# Altium footprint library XC6220B331MR-G.PcbLib: 3 footprints
Each footprint in its own frame and in the unit in brackets; x right, y up, seen from the top. Pads: shape width x height; smd on the part's side, far side on the other; paste and mask are expansions set on the pad; w line width, h text height; cw(c..) or ccw(c..) is an arc to the next point about the centre after c.
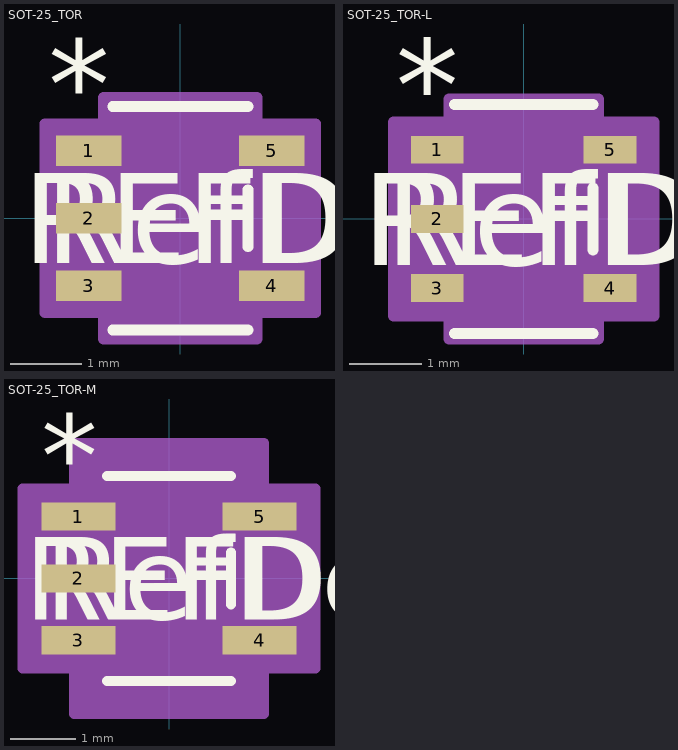
[diagram p0: the footprints below, top view; thin cyan lines are the x and y axes]

## SOT-25_TOR [mil]
pads (5):
  rect 36.5x17 smd paste+0 mask+0: 1(-50.75,37.4) 2(-50.75,0) 3(-50.75,-37.4) 4(50.75,-37.4) 5(50.75,37.4)
Top Overlay:
  lines w6: -37.5,-62 37.5,-62 ; -37.5,62 37.5,62 ; 37.5,-15.8 37.5,15.8
  text "REFDES" at -87.5,-25 h50
  text "*" at -73.25,49.4 h50
  text "RefDes" at -75,-25 h50
Mechanical 13:
  lines w0: -12,57 ccw(c0,57) 12,57
  lines w1: -55,-45.9 -55,-28.9 -32.5,-28.9 -32.5,-45.9 -55,-45.9 ; -55,-8.5 -55,8.5 -32.5,8.5 -32.5,-8.5 -55,-8.5 ; -55,28.9 -55,45.9 -32.5,45.9 -32.5,28.9 -55,28.9 ; -32.5,-57 32.5,-57 32.5,57 -32.5,57 -32.5,-57 ; 32.5,-45.9 32.5,-28.9 55,-28.9 55,-45.9 32.5,-45.9 ; 32.5,28.9 32.5,45.9 55,45.9 55,28.9 32.5,28.9
  text "*" at -35,6.4 h50
  text "RefDes2" at -87.5,-25 h50
Mechanical 15:
  region: 42.5,-67 -42.5,-67 -42.5,-52.4 -75,-52.4 -75,52.4 -42.5,52.4 -42.5,67 42.5,67 42.5,52.4 75,52.4 75,-52.4 42.5,-52.4
  lines w6: -75,-52.4 -42.5,-52.4 -42.5,-67 42.5,-67 42.5,-52.4 75,-52.4 75,52.4 42.5,52.4 42.5,67 -42.5,67 -42.5,52.4 -75,52.4 -75,-52.4
3D body "SOT-25_TOR.step": height 51.1, standoff 0, extent -55,-57.01 55,57.01

## SOT-25_TOR-L [mil]
pads (5):
  rect 28.5x15 smd paste+0 mask+0: 1(-46.75,37.4) 2(-46.75,0) 3(-46.75,-37.4) 4(46.75,-37.4) 5(46.75,37.4)
Top Overlay:
  lines w6: -37.5,-62 37.5,-62 ; -37.5,62 37.5,62 ; 37.5,-16.8 37.5,16.8
  text "REFDES" at -87.5,-25 h50
  text "*" at -69.25,47.4 h50
  text "RefDes" at -75,-25 h50
Mechanical 13:
  lines w0: -12,57 ccw(c0,57) 12,57
  lines w1: -55,-45.9 -55,-28.9 -32.5,-28.9 -32.5,-45.9 -55,-45.9 ; -55,-8.5 -55,8.5 -32.5,8.5 -32.5,-8.5 -55,-8.5 ; -55,28.9 -55,45.9 -32.5,45.9 -32.5,28.9 -55,28.9 ; -32.5,-57 32.5,-57 32.5,57 -32.5,57 -32.5,-57 ; 32.5,-45.9 32.5,-28.9 55,-28.9 55,-45.9 32.5,-45.9 ; 32.5,28.9 32.5,45.9 55,45.9 55,28.9 32.5,28.9
  text "*" at -35,4.4 h50
  text "RefDes2" at -87.5,-25 h50
Mechanical 15:
  region: 40.5,-65 -40.5,-65 -40.5,-52.4 -70.5,-52.4 -70.5,52.4 -40.5,52.4 -40.5,65 40.5,65 40.5,52.4 70.5,52.4 70.5,-52.4 40.5,-52.4
  lines w6: -70.5,-52.4 -40.5,-52.4 -40.5,-65 40.5,-65 40.5,-52.4 70.5,-52.4 70.5,52.4 40.5,52.4 40.5,65 -40.5,65 -40.5,52.4 -70.5,52.4 -70.5,-52.4
3D body "SOT-25_TOR.step": height 51.1, standoff 0, extent -55,-57.01 55,57.01

## SOT-25_TOR-M [mil]
pads (5):
  rect 44.5x17 smd paste+0 mask+0: 1(-54.75,37.4) 2(-54.75,0) 3(-54.75,-37.4) 4(54.75,-37.4) 5(54.75,37.4)
Top Overlay:
  lines w6: -37.5,-62 37.5,-62 ; -37.5,62 37.5,62 ; 37.5,-15.8 37.5,15.8
  text "REFDES" at -87.5,-25 h50
  text "*" at -77.25,49.4 h50
  text "RefDes" at -75,-25 h50
Mechanical 13:
  lines w0: -12,57 ccw(c0,57) 12,57
  lines w1: -55,-45.9 -55,-28.9 -32.5,-28.9 -32.5,-45.9 -55,-45.9 ; -55,-8.5 -55,8.5 -32.5,8.5 -32.5,-8.5 -55,-8.5 ; -55,28.9 -55,45.9 -32.5,45.9 -32.5,28.9 -55,28.9 ; -32.5,-57 32.5,-57 32.5,57 -32.5,57 -32.5,-57 ; 32.5,-45.9 32.5,-28.9 55,-28.9 55,-45.9 32.5,-45.9 ; 32.5,28.9 32.5,45.9 55,45.9 55,28.9 32.5,28.9
  text "*" at -35,6.4 h50
  text "RefDes2" at -87.5,-25 h50
Mechanical 15:
  region: 57.5,-82 -57.5,-82 -57.5,-54.4 -88.5,-54.4 -88.5,54.4 -57.5,54.4 -57.5,82 57.5,82 57.5,54.4 88.5,54.4 88.5,-54.4 57.5,-54.4
  lines w6: -88.5,-54.4 -57.5,-54.4 -57.5,-82 57.5,-82 57.5,-54.4 88.5,-54.4 88.5,54.4 57.5,54.4 57.5,82 -57.5,82 -57.5,54.4 -88.5,54.4 -88.5,-54.4
3D body "SOT-25_TOR.step": height 51.1, standoff 0, extent -55,-57.01 55,57.01